# Altium footprint library LM339N.PcbLib: 1 footprints
Each footprint in its own frame and in the unit in brackets; x right, y up, seen from the top. Pads: shape width x height; smd on the part's side, far side on the other; paste and mask are expansions set on the pad; w line width, h text height; cw(c..) or ccw(c..) is an arc to the next point about the centre after c.
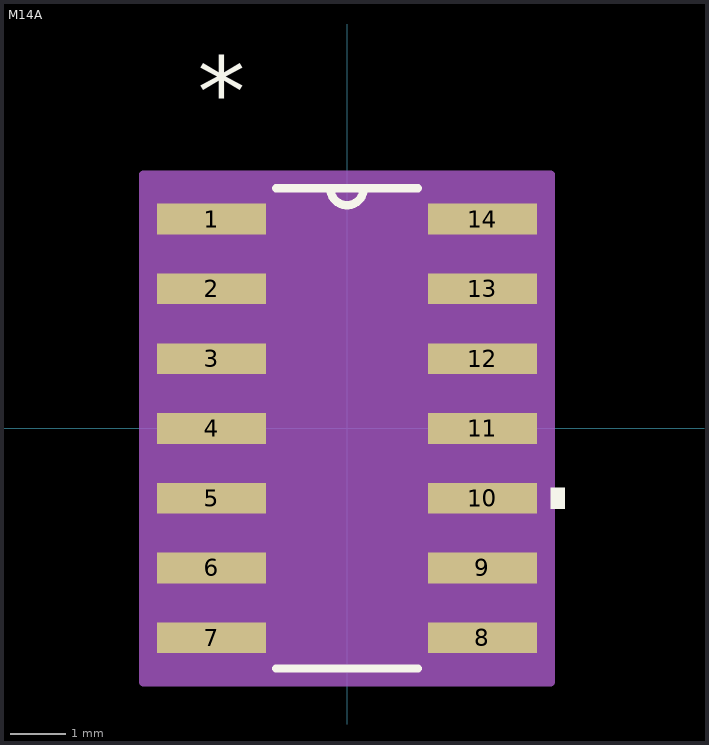
[diagram p0: the footprint, top view; thin cyan lines are the x and y axes]

## M14A [mil]
pads (14):
  rect 78x22 smd: 1(-97,150) 2(-97,100) 3(-97,50) 4(-97,0) 5(-97,-50) 6(-97,-100) 7(-97,-150) 8(97,-150) 9(97,-100) 10(97,-50) 11(97,0) 12(97,50) 13(97,100) 14(97,150)
Top Overlay:
  region: 146,-42.5 156,-42.5 156,-57.5 146,-57.5
  lines w6: -50.89,-172 50.89,-172 ; -50.89,172 50.89,172 ; -12,172 ccw(c0,172) 12,172
  text "*" at -107,217 h50
Mechanical 13:
  lines w0: -12,172 ccw(c0,172) 12,172
  text "*" at -107,217 h50
Mechanical 15:
  region: 146,-182 -146,-182 -146,182 146,182
  lines w6: -146,-182 146,-182 146,182 -146,182 -146,-182
3D body "M14A.stp": height 69.1, standoff 0, extent -122,-172 122,172